# Altium schematic symbol library Cap 10uF_50V.Schlib: 1 symbol
Pins are listed as number, name and electrical type; pins without a type are passive.

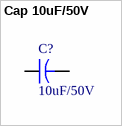
[diagram p0: symbol Cap 10uF/50V]

## Cap 10uF/50V
designator C?, comment 10uF/50V
Electrolytic capacitor
pins: 1, 2